# Altium schematic symbol library STMicroelectronics.SchLib: 1 symbol
Pins are listed as number, name and electrical type; pins without a type are passive.

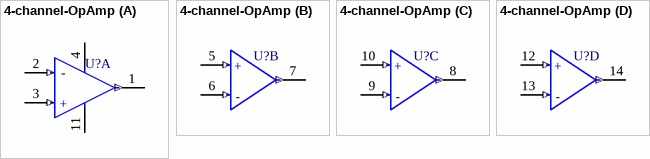
[diagram p0: symbol 4-channel-OpAmp]

## 4-channel-OpAmp
designator U?
part A pins: 1 Output 1 (out), 2 Inverting input 1 (in), 3 Non-inverting input 1 (in), 4 VCC (power), 11 VDD (power)
part B pins: 5 Non-inverting input 2 (in), 6 Inverting input 2 (in), 7 Output 2 (out)
part C pins: 8 Output 3 (out), 9 Inverting input 3 (in), 10 Non-inverting input 3 (in)
part D pins: 12 Non-inverting input 4 (in), 13 Inverting input 4 (in), 14 Output 4 (out)
part A text: -; +
part B text: +; -
part C text: +; -
part D text: +; -